# EAGLE library part MS6205-HEADER (library MS6205_Display)
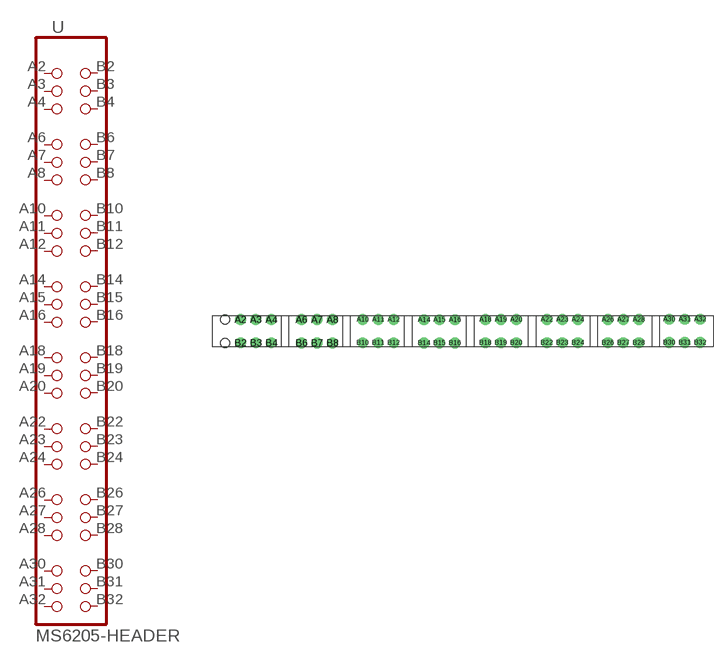
[diagram p1: symbol with the pads of MS6205_CONNECTOR_HOLE; footprint MS6205_CONNECTOR_HOLE]

Designator prefix -

## MS6205-HEADER  [MS6205_CONNECTOR_HOLE]
A2  A2  pas
A3  A3  pas
A4  A4  pas
A6  A6  pas
A7  A7  pas
A8  A8  pas
A10  A10  pas
A11  A11  pas
A12  A12  pas
A14  A14  pas
A15  A15  pas
A16  A16  pas
A18  A18  pas
A19  A19  pas
A20  A20  pas
A22  A22  pas
A23  A23  pas
A24  A24  pas
A26  A26  pas
A27  A27  pas
A28  A28  pas
A30  A30  pas
A31  A31  pas
A32  A32  pas
B2  B2  pas
B3  B3  pas
B4  B4  pas
B6  B6  pas
B7  B7  pas
B8  B8  pas
B10  B10  pas
B11  B11  pas
B12  B12  pas
B14  B14  pas
B15  B15  pas
B16  B16  pas
B18  B18  pas
B19  B19  pas
B20  B20  pas
B22  B22  pas
B23  B23  pas
B24  B24  pas
B26  B26  pas
B27  B27  pas
B28  B28  pas
B30  B30  pas
B31  B31  pas
B32  B32  pas

## Footprint MS6205_CONNECTOR_HOLE (pad centres in mm)
drill 1.016 pad 1.778: A2 -38.1,0; A3 -35.56,0; A4 -33.02,0; A6 -28.08,-0.013; A7 -25.54,-0.013; A8 -23,-0.013; A10 -18.021,0; A11 -15.481,0; A12 -12.941,0; A14 -7.963,-0.038; A15 -5.423,-0.038; A16 -2.883,-0.038; A18 2.108,0; A19 4.648,0; A20 7.188,0; A22 12.192,0.013; A23 14.732,0.013; A24 17.272,0.013; A26 22.225,0; A27 24.765,0; A28 27.305,0; A30 32.296,0.038; A31 34.836,0.038; A32 37.376,0.038; B2 -38.1,-3.81; B3 -35.56,-3.81; B4 -33.02,-3.81; B6 -28.08,-3.823; B7 -25.54,-3.823; B8 -23,-3.823; B10 -18.021,-3.81; B11 -15.481,-3.81; B12 -12.941,-3.81; B14 -7.963,-3.848; B15 -5.423,-3.848; B16 -2.883,-3.848; B18 2.108,-3.81; B19 4.648,-3.81; B20 7.188,-3.81; B22 12.192,-3.797; B23 14.732,-3.797; B24 17.272,-3.797; B26 22.225,-3.81; B27 24.765,-3.81; B28 27.305,-3.81; B30 32.296,-3.772; B31 34.836,-3.772; B32 37.376,-3.772